# Altium schematic symbol library Connectors.SchLib: 21 symbols
Pins are listed as number, name and electrical type; pins without a type are passive.

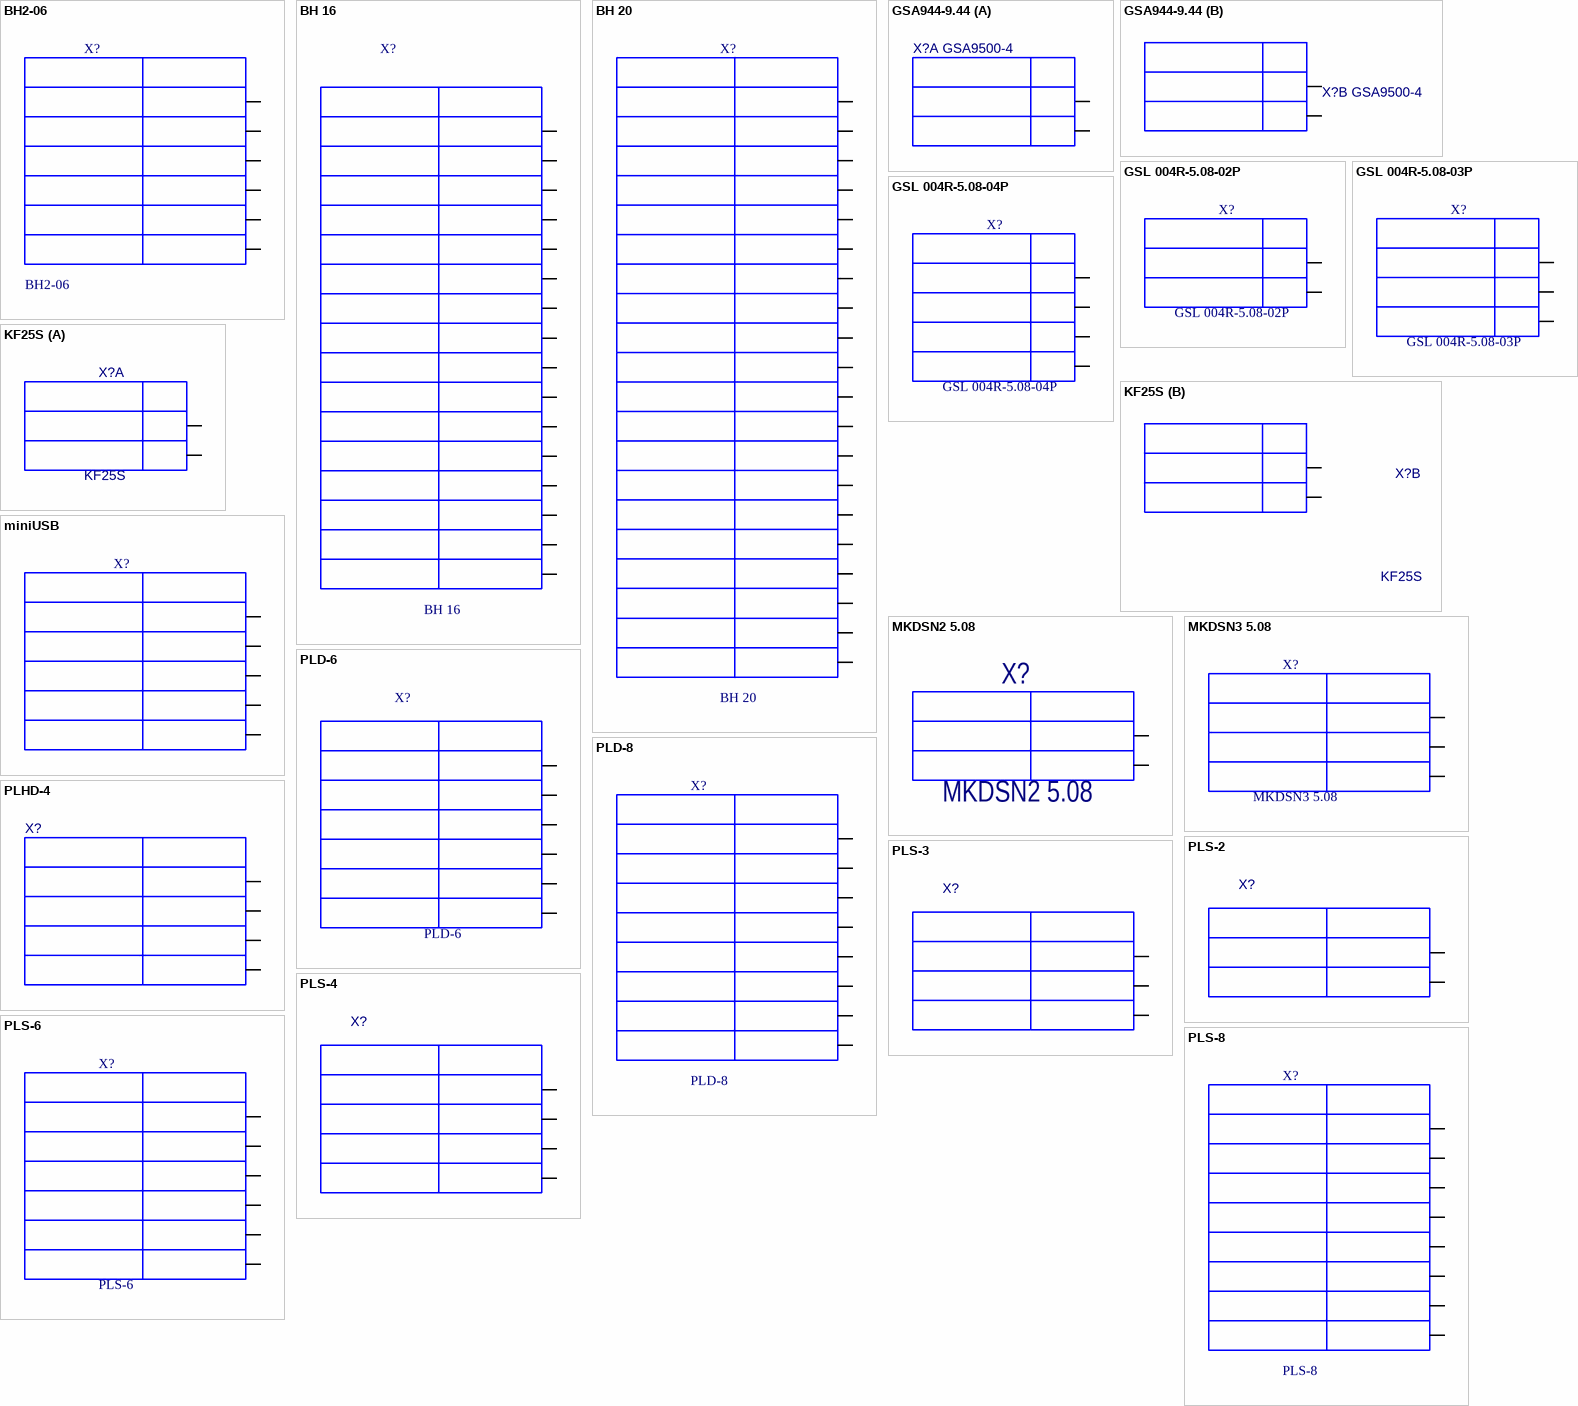
[diagram p0: symbols BH2-06 to PLS-8]

## BH2-06
designator X?
ComponentDescription: BH2-06
footprint BH2-06
pins: 1, 2, 3, 4, 5, 6

## BH 16
designator X?
ComponentDescription: BH 16
footprint BH 16
pins: 1, 2, 3, 4, 5, 6, 7, 8, 9, 10, 11, 12, 13, 14, 15, 16

## BH 20
designator X?
ComponentDescription: BH 20
footprint BH 20
pins: 1, 2, 3, 4, 5, 6, 7, 8, 9, 10, 11, 12, 13, 14, 15, 16, 17, 18, 19, 20

## GSA944-9.44
designator X?, comment GSA9500-4
GSA944-9.44; ComponentDescription: GSA9500-4
footprint GSA9500 - 4
part A pins: 1, 2
part B pins: 3, 4

## GSL 004R-5.08-02P
designator X?
ComponentDescription: GSL 004R-5.08-02P
footprint GSL 004R-5.08-02P
pins: 1, 2

## GSL 004R-5.08-03P
designator X?
ComponentDescription: GSL 004R-5.08-03P
footprint GSL 004R-5.08-03P
pins: 1, 2, 3

## GSL 004R-5.08-04P
designator X?
ComponentDescription: GSL 004R-5.08-04P
footprint GSL 004R-5.08-04P
pins: 1, 2, 3, 4

## KF25S
designator X?
ComponentDescription: KF25S
footprint KF25-4
part A pins: 1, 2
part B pins: 3, 4

## miniUSB
designator X?  (value not drawn)
footprint miniUSB
pins: 1, 2, 3, 4, 5

## MKDSN2 5.08
designator X?
ComponentDescription: MKDSN2 5.08
footprint MKDSN2 5.08
pins: 1, 2

## MKDSN3 5.08
designator X?
ComponentDescription: MKDSN3 5.08
footprint MKDSN3 5.08
pins: 1, 2, 3

## PLD-6
designator X?
ComponentDescription: PLD6
footprint PLD_6
pins: 1, 2, 3, 4, 5, 6

## PLD-8
designator X?
ComponentDescription: PLD6
footprint PLD_8
pins: 1, 2, 3, 4, 5, 6, 7, 8

## PLHD-4
designator X?  (value not drawn)
ComponentDescription: PLHD-4
footprint PLHD4 (Footprint not found)
pins: 1, 2, 3, 4

## PLS-2
designator X?  (value not drawn)
ComponentDescription: PLS-2
footprint PLS2
pins: 1, 2

## PLS-3
designator X?  (value not drawn)
ComponentDescription: PLS-3
footprint PLS3 (Footprint not found)
pins: 1, 2, 3

## PLS-4
designator X?  (value not drawn)
ComponentDescription: PLS-4
footprint PLS4 (Footprint not found)
pins: 1, 2, 3, 4

## PLS-6
designator X?
ComponentDescription: PLS-6
footprint PLS6
pins: 1, 2, 3, 4, 5, 6

## PLS-8
designator X?
ComponentDescription: PLS-8
footprint PLS8
pins: 1, 2, 3, 4, 5, 6, 7, 8

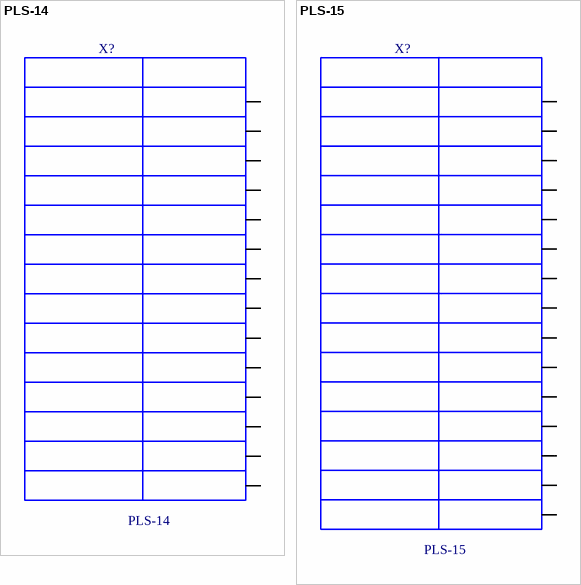
[diagram p1: symbols PLS-14 to PLS-15]

## PLS-14
designator X?
ComponentDescription: PLS-14
footprint PLS14
pins: 1, 2, 3, 4, 5, 6, 7, 8, 9, 10, 11, 12, 13, 14

## PLS-15
designator X?
ComponentDescription: PLS-15
footprint PLS15
pins: 1, 2, 3, 4, 5, 6, 7, 8, 9, 10, 11, 12, 13, 14, 15